# Altium footprint library LED_LTST-C230KGKT.PcbLib: 1 footprints
Each footprint in its own frame and in the unit in brackets; x right, y up, seen from the top. Pads: shape width x height; smd on the part's side, far side on the other; paste and mask are expansions set on the pad; w line width, h text height; cw(c..) or ccw(c..) is an arc to the next point about the centre after c.
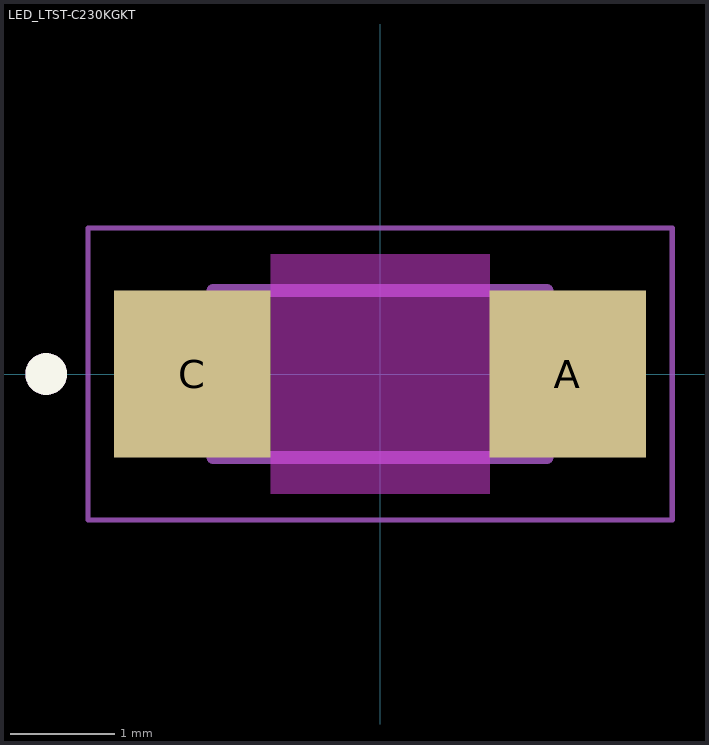
[diagram p0: the footprint, top view; thin cyan lines are the x and y axes]

## LED_LTST-C230KGKT [mm]
height 1.2
pads (2):
  rect 1.5x1.6 smd: A(1.8,0) C(-1.8,0)
Top Overlay:
  circle w0.2: c-3.2,0 r0.1
Keep-Out Layer:
  board cut-out: -1.05,-1.15 -1.05,1.15 1.05,1.15 1.05,-1.15
Mechanical 13:
  circle w0.2: c-3.2,0 r0.1
  lines w0.127: -1.6,-0.8 -1.6,0.8 1.6,0.8 1.6,-0.8 -1.6,-0.8
Mechanical 15:
  lines w0.05: -2.8,-1.4 2.8,-1.4 2.8,1.4 -2.8,1.4 -2.8,-1.4
3D body "step_temp.STEP": height 1.1, standoff 0, extent -1.6,-0.8 1.6,0.8